# Altium footprint library CMF2113112.PcbLib: 1 footprints
Each footprint in its own frame and in the unit in brackets; x right, y up, seen from the top. Pads: shape width x height; smd on the part's side, far side on the other; paste and mask are expansions set on the pad; w line width, h text height; cw(c..) or ccw(c..) is an arc to the next point about the centre after c.
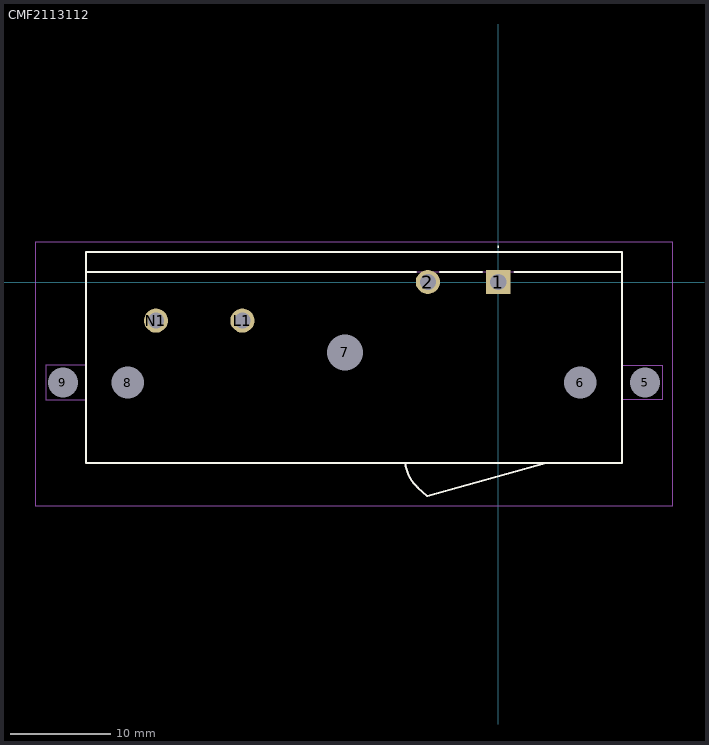
[diagram p0: the footprint, top view; thin cyan lines are the x and y axes]

## CMF2113112 [mm]
pads (9):
  rect 2.4x2.4 hole 1.6: 1(0,0)
  round 2.4 hole 1.6: 2(-7,0) L1(-25.45,-3.84) N1(-34.05,-3.84)
  round 1.5 hole 3 unplated: 5(14.6,-10) 9(-43.3,-10)
  round 1.6 hole 3.2 unplated: 6(8.15,-10) 8(-36.85,-10)
  round 1.8 hole 3.6 unplated: 7(-15.25,-7)
Top Overlay:
  lines w0.1: 0,3.45 0,3.45 ; 0,3.45 ccw(c0,3.5) 0,3.55 ; 0,3.45 cw(c0,3.5) 0,3.55 ; 0,3.55 0,3.55
  lines w0.2: -9.25,-18.001 ccw(c-5.459,-17.609) -7.999,-20.451 ; -8.2,1 -41,1 ; -8,-20.45 -7.05,-21.3 4.75,-18 ; -5.8,1 -1.6,1 ; 1.6,1 12.3,1 ; -41,1 -41,3 12.3,3 12.3,1 ; -41,1 -41,-18 12.3,-18 12.3,1 ; -9.25,-18 -9.25,-18
Mechanical 15:
  lines w0.1: -41,-11.7 -45,-11.7 -45,-8.3 -41,-8.3 ; -9.25,-18.001 ccw(c-5.459,-17.609) -7.999,-20.451 ; 4.75,-18 -7.05,-21.3 -8,-20.45 ; 12.3,-11.7 16.3,-11.7 16.3,-8.3 12.3,-8.3 ; -41,1 12.3,1 ; -41,1 -41,-18 12.3,-18 12.3,1 ; -41,1 -41,3 12.3,3 12.3,1 ; -8,-20.45 -8,-20.45
Mechanical 20:
  lines w0.1: -46,-22.3 17.3,-22.3 17.3,4 -46,4 -46,-22.3